# Altium schematic symbol library Custom_Parts.SchLib: 2 symbols
Pins are listed as number, name and electrical type; pins without a type are passive.

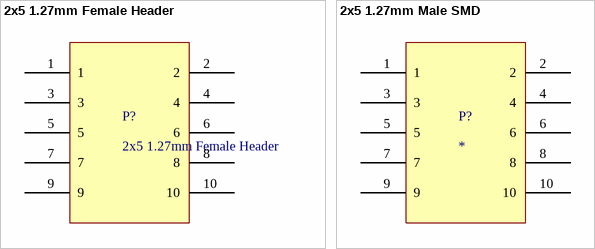
[diagram p0: symbols 2x5 1.27mm Female Header to 2x5 1.27mm Male SMD]

## 2x5 1.27mm Female Header
designator P?
footprint 2x5 1.27mm Female Through Hole
pins: 1, 2, 3, 4, 5, 6, 7, 8, 9, 10

## 2x5 1.27mm Male SMD
designator P?
2x5 1.27mm Male SMD
footprint 2x5 1.27mm Male SMD
pins: 1, 2, 3, 4, 5, 6, 7, 8, 9, 10